# Altium schematic symbol library transistors.SchLib: 19 symbols
Pins are listed as number, name and electrical type; pins without a type are passive.

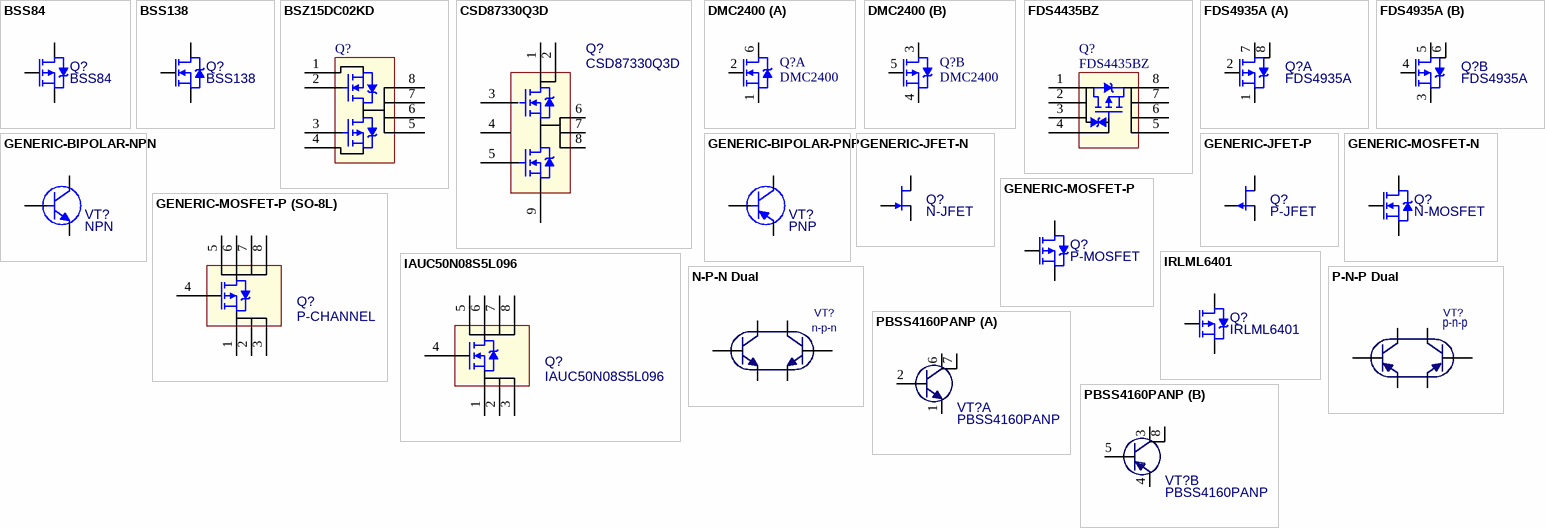
[diagram p0: symbols BSS84 to PBSS4160PANP]

## BSS84
designator Q?
P-CHANNEL ENHANCEMENT MODE MOSFET, 50V, 130mA; Value: BSS84
footprint SOT-23-3
footprint SOT-323-3 (SC-70) (Footprint not found)
pins: 1 G, 2 S, 3 D

## BSS138
designator Q?
N-CHANNEL ENHANCEMENT MODE MOSFET, 50V, 200mA; Value: BSS138
footprint SOT-23-3
footprint SOT-323-3 (SC-70) (Footprint not found)
pins: 1 G, 2 S, 3 D

## BSZ15DC02KD
designator Q?  (value not drawn)
Complementary P + N channel MOSFET; Value: BSZ15DC02KD
footprint PG-TSDSON-8 (SON, 8-Leads, Body 3,30x3,30mm, Pitch 0,65mm, Thermal Pad 0,00x0,00mm, IPC Medium Density)
pins: 1 S2, 2 G2, 3 S1, 4 G1, 5 D1, 6 D1, 7 D2, 8 D2

## CSD87330Q3D
designator Q?
Synchronous Buck NexFET™ Power Block
footprint SON-8-3.3X3.3 (SON, 8-Leads, Body 3,30x3,30mm, Pitch 0,65mm, Thermal Pad 2,70x1,79mm, IPC Medium Density)
pins: 1 VIN, 2 VIN, 3 TG, 4 TGR, 5 BG, 6 VSW, 7 VSW, 8 VSW, 9 GND

## DMC2400
designator Q?
COMPLEMENTARY PAIR ENHANCEMENT MODE MOSFET; value: *
footprint SOT-563-6 (DRL0006A) (SOT563, 6-Leads, Body 1.2x1.6mm, Pitch 0.50mm, IPC Medium Density)
part A pins: 1 S, 2 G, 6 D
part B pins: 3 D, 4 S, 5 G

## FDS4435BZ
designator Q?
P-Channel, / POWERTRENCH, -30 V, -8.8 A, 20mOhm; Value: FDS4435BZ
footprint SO-8_N (8-Pin Small Outline Integrated Circuit 1.27 mm Pitch, IPC Medium Density)
pins: 1 S, 2 S, 3 S, 4 G1, 5 D, 6 D, 7 D, 8 D

## FDS4935A
designator Q?
Dual, P-Channel, POWERTRENCH, 30V, 7A; Value: FDS4935A
footprint SO-8_N (Footprint not found)
part A pins: 1 S, 2 G, 7 D, 8 D
part B pins: 3 S, 4 G, 5 D, 6 D

## GENERIC-BIPOLAR-NPN
designator VT?, comment value NPN  (hidden comment: Generic NPN)
Bipolar transistor NPN
pins: 1 B, 2 E, 3 K

## GENERIC-BIPOLAR-PNP
designator VT?, comment value PNP  (hidden comment: Generic PNP)
Bipolar transistor PNP
pins: 1 B, 2 E, 3 K

## GENERIC-JFET-N
designator Q?, comment N-JFET
N-Channel JFET; value: JFET
pins: 1 D, 2 S, 3 G

## GENERIC-JFET-P
designator Q?, comment P-JFET
P-Channel JFET; value: JFET
pins: 1 D, 2 S, 3 G

## GENERIC-MOSFET-N
designator Q?, comment N-MOSFET
N-Channel MOSFET; value: *
footprint SOT-23-3
pins: 1 G, 2 S, 3 D

## GENERIC-MOSFET-P
designator Q?, comment P-MOSFET
P-Channel MOSFET; Value: P-MOSFET
footprint SOT-23-3
pins: 1 G, 2 S, 3 D

## GENERIC-MOSFET-P (SO-8L)
designator Q?, comment P-CHANNEL
P-Channel, PowerPAK® SO-8L, Power SON-8; PackageReference: PG-TDSON-8-33; Value: *
pins: 1 VIN, 2 VIN, 3 TG, 4 BG, 5 BG, 6 BG, 7 BG, 8 BG

## IAUC50N08S5L096
designator Q?
80 V, N-Ch, 9.6 mΩ max, Automotive MOSFET, SSO8 (5x6), OptiMOS™ 5; PackageReference: PG-TDSON-8-33; Value: IAUC50N08S5L096
footprint PG-TDSON-8 (Footprint not found)
pins: 1 VIN, 2 VIN, 3 TG, 4 BG, 5 BG, 6 BG, 7 BG, 8 BG

## IRLML6401
designator Q?
HEXFET Power MOSFET P-CH 12V 4.3A SOT23; Value: IRLML6401
footprint SOT-23-3 (SOT23, 3-Leads, Body 2,90x2,30mm, Pitch 0,95mm, IPC Medium Density)
pins: 1 G, 2 S, 3 D

## N-P-N Dual
designator VT?  value n-p-n  (hidden comment: *)
Dual bipolar transistor N-P-N
footprint SOT-363
pins: 1 E, 2 B, 3 C, 4 E, 5 B, 6 C

## P-N-P Dual
designator VT?  value p-n-p  (hidden comment: *)
Dual bipolar transistor P-N-P
footprint SOT-363
pins: 1, 1, 2, 2, 6 C, 6 C

## PBSS4160PANP
designator VT?  value PBSS4160PANP  (hidden comment: *)
Dual 60V 1 A NPN/NPN low VCEsat (BISS) transistor
footprint DFN2020D-6 (SOT1118D) (Footprint not found)
part A pins: 1 E1, 2 B1, 6 C1, 7 C1
part B pins: 3 C2, 4 E2, 5 B2, 8 C2